# EAGLE library part FXOS8700CQR1 (library FXOS8700CQR1)
ACCELEROMETER, MEMS, 6-AXIS, DIGITAL OUTPUT,QFN-16
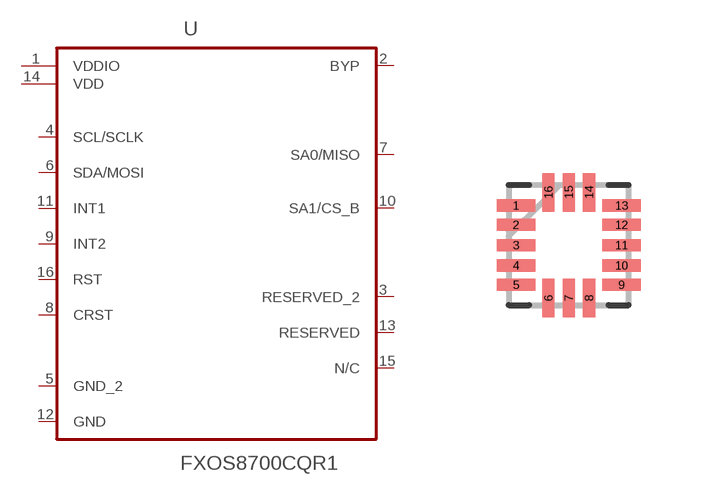
[diagram p0: symbol with the pads of QFN50P300X300X120-16N; footprint QFN50P300X300X120-16N]

Designator prefix U

## FXOS8700CQR1 (MPN: FXOS8700CQR1; OC_FARNELL: Unknown; OC_NEWARK: 47W8598; PACKAGE: QFN-16; SUPPLIER: FREESCALE SEMICONDUCTOR)  [QFN50P300X300X120-16N]
1  VDDIO  pwr
2  BYP  pas
3  RESERVED_2  pas
4  SCL/SCLK  in
5  GND_2  pas
6  SDA/MOSI
7  SA0/MISO
8  CRST  pas
9  INT2  in
10  SA1/CS_B  in
11  INT1  in
12  GND  pas
13  RESERVED  pas
14  VDD  pwr
15  N/C  nc
16  RST  in

## Footprint QFN50P300X300X120-16N (pad centres in mm)
smd 0.965 x 0.305: 1 -1.321,0.991; 2 -1.321,0.508; 3 -1.321,0; 4 -1.321,-0.508; 5 -1.321,-0.991; 9 1.321,-0.991; 10 1.321,-0.508; 11 1.321,0; 12 1.321,0.508; 13 1.321,0.991
smd 0.305 x 0.965: 6 -0.508,-1.321; 7 0,-1.321; 8 0.508,-1.321; 14 0.508,1.321; 15 0,1.321; 16 -0.508,1.321